# EAGLE library part L293D (library EurorackModularParts)
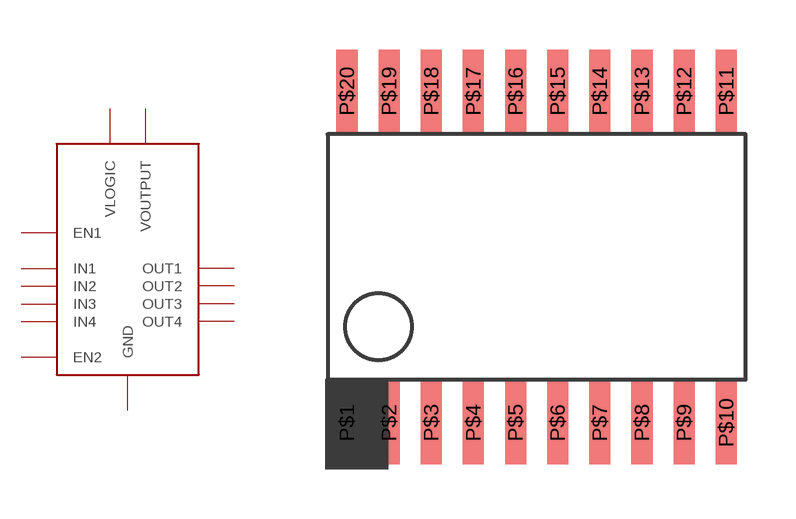
[diagram p27: symbol with the pads of SO20; footprint SO20]

Designator prefix -

## L293D  [SO20]
P$1  EN1
P$2  IN1
P$3  OUT1
P$4  GND
P$5  GND
P$6  GND
P$7  GND
P$8  OUT2
P$9  IN2
P$10  VOUTPUT
P$11  EN2
P$12  IN3
P$13  OUT3
P$14  GND
P$15  GND
P$16  GND
P$17  GND
P$18  OUT4
P$19  IN4
P$20  VLOGIC

## Footprint SO20 (pad centres in mm)
smd 0.635 x 2.5: P$1 -5.715,-5; P$2 -4.445,-5; P$3 -3.175,-5; P$4 -1.905,-5; P$5 -0.635,-5; P$6 0.635,-5; P$7 1.905,-5; P$8 3.175,-5; P$9 4.445,-5; P$10 5.715,-5; P$11 5.715,5; P$12 4.445,5; P$13 3.175,5; P$14 1.905,5; P$15 0.635,5; P$16 -0.635,5; P$17 -1.905,5; P$18 -3.175,5; P$19 -4.445,5; P$20 -5.715,5